# Altium footprint library Protection.PcbLib: 3 footprints
Each footprint in its own frame and in the unit in brackets; x right, y up, seen from the top. Pads: shape width x height; smd on the part's side, far side on the other; paste and mask are expansions set on the pad; w line width, h text height; cw(c..) or ccw(c..) is an arc to the next point about the centre after c.
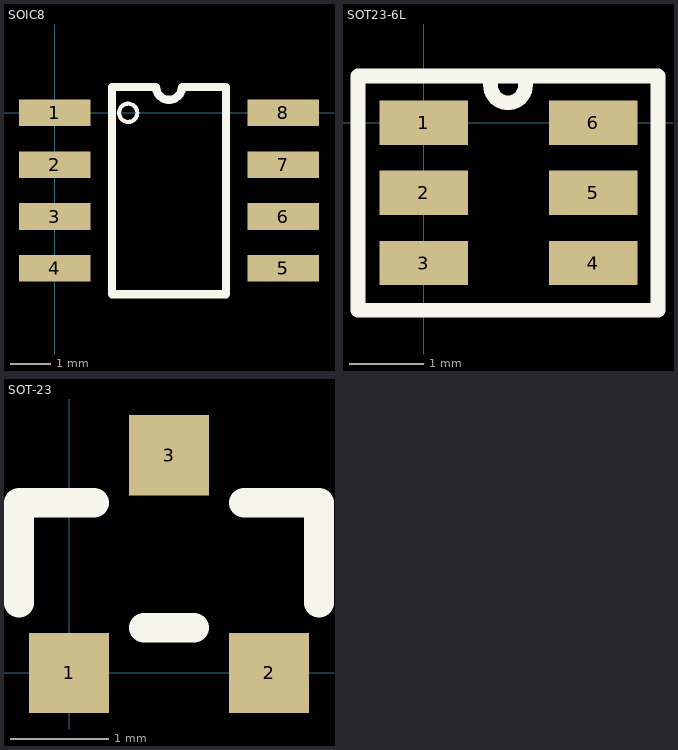
[diagram p0: the footprints below, top view; thin cyan lines are the x and y axes]

## SOIC8 [mm]
pads (8):
  rect 1.75x0.65 smd: 1(0,0) 2(0,-1.27) 3(0,-2.54) 4(0,-3.81) 5(5.6,-3.81) 6(5.6,-2.54) 7(5.6,-1.27) 8(5.6,0)
Top Overlay:
  circle w0.1: c1.8,0 r0.224
  lines w0.2: 1.4,-4.445 4.2,-4.445 4.2,0.635 3.117,0.635 cw(c2.8,0.635) 2.482,0.635 1.4,0.635 1.4,-4.445
3D body "User Library-SOIC-8-1.step": height 1.75, standoff 0, extent -0.2,-4.353 5.8,0.547

## SOT23-6L [mm]
pads (6):
  rect 1.2x0.6 smd: 1(0,0) 2(0,-0.95) 3(0,-1.9) 4(2.3,-1.9) 5(2.3,-0.95) 6(2.3,0)
Top Overlay:
  lines w0.2: 0.905,0.508 ccw(c1.143,0.508) 1.381,0.508 ; 1.072,0.635 3.175,0.635 3.175,-2.54 -0.889,-2.54 -0.889,0.635 1.228,0.635
3D body "User Library-SOT23-6-2.step": height 1.45, standoff 0, extent -0.3,-2.4 2.5,0.5

## SOT-23 [mil]
pads (3):
  rect 32x32 smd: 1(0,0) 2(80,0) 3(40,87)
Top Overlay:
  lines w11.81: -20,28 -20,68 10,68 ; 30,18 50,18 ; 70,68 100,68 100,28
3D body "User Library-3-lead sot23-3.step": height 37.4, standoff -2.76, extent -17.26,-4.56 97.7,92.92